# Altium footprint library 2.贴片器件封装.PcbLib: 28 footprints (part 2 of 2)
Each footprint in its own frame and in the unit in brackets; x right, y up, seen from the top. Pads: shape width x height; smd on the part's side, far side on the other; paste and mask are expansions set on the pad; w line width, h text height; cw(c..) or ccw(c..) is an arc to the next point about the centre after c.
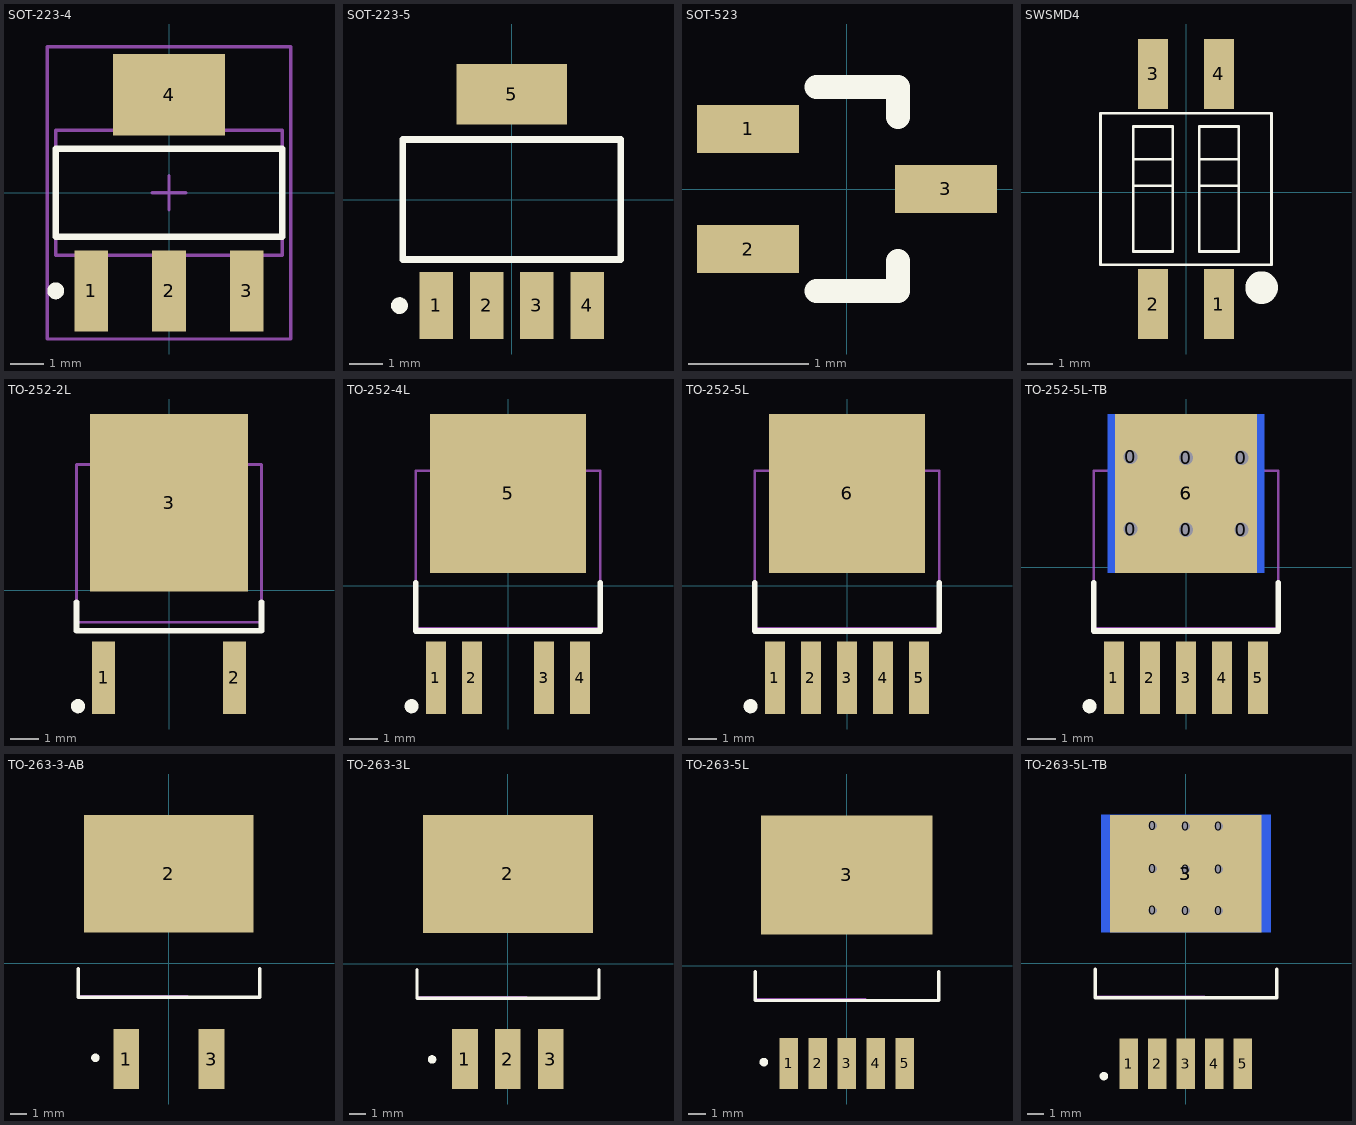
[diagram p1: the footprints below, top view; thin cyan lines are the x and y axes]

## SOT-223-4 [mm] "SOT223, 4-Leads, Body 6.7x7.3mm (max), Pitch 2.30mm, IPC Medium Density"
height 1.8
pads (4):
  rect 1x2.4 smd: 1(-2.3,-2.9) 2(0,-2.9) 3(2.3,-2.9)
  rect 3.3x2.4 smd: 4(0,2.9)
Top Overlay:
  circle w0.25: c-3.35,-2.9 r0.125
  lines w0.2: -3.35,-1.3 -3.35,1.3 3.35,1.3 3.35,-1.3 -3.35,-1.3
Mechanical 13:
  lines w0.1: -3.35,-1.85 -3.35,1.85 3.35,1.85 3.35,-1.85 -3.35,-1.85
Mechanical 15:
  lines w0.1: -0.5,0 0.5,0 ; 0,-0.5 0,0.5 ; -3.6,-4.325 -3.6,4.325 3.6,4.325 3.6,-4.325 -3.6,-4.325
3D body: height 1.8, standoff 0.02, extent -3.35,-1.85 3.35,1.85

## SOT-223-5 [mm] "SOT223"
height 1.8
pads (5):
  rect 1x2 smd: 1(-2.25,-3.15) 2(-0.75,-3.15) 3(0.75,-3.15) 4(2.25,-3.15)
  rect 3.3x1.8 smd: 5(0,3.15)
Top Overlay:
  circle w0.25: c-3.35,-3.154 r0.125
  lines w0.2: -3.25,-1.778 -3.25,1.803 3.25,1.803 3.25,-1.778 -3.25,-1.778

## SOT-523 [mm] "SOT23, 3-Leads, Body 1.7x1.8mm (max), Pitch 0.50mm, IPC Medium Density"
height 0.9
pads (3):
  rect 0.85x0.4 smd: 1(-0.825,0.5) 2(-0.825,-0.5) 3(0.825,0)
Top Overlay:
  lines w0.2: -0.254,-0.85 0.425,-0.85 0.425,-0.6 ; -0.254,0.85 0.425,0.85 0.425,0.6

## SWSMD4 [mm]
height 0.65
pads (4):
  rect 1.15x2.7 smd: 1(1.27,-4.318) 2(-1.27,-4.318) 3(-1.27,4.572) 4(1.27,4.572)
Top Overlay:
  circle w1: c2.921,-3.683 r0.127
  lines w0.1: -2.032,0.254 -0.508,0.254 ; -2.032,1.27 -0.508,1.27 ; 0.508,0.254 2.032,0.254 ; 0.508,1.27 2.032,1.27 ; -3.302,-2.794 -3.302,3.048 3.302,3.048 3.302,-2.794 -3.302,-2.794 ; -2.032,-2.286 -2.032,2.54 -0.508,2.54 -0.508,-2.286 -2.032,-2.286 ; 0.508,-2.286 0.508,2.54 2.032,2.54 2.032,-2.286 0.508,-2.286
3D body: height 3, standoff 0.25, extent -3.302,-3.556 3.302,3.81

## TO-252-2L [mm]
pads (3):
  rect 0.8x2.55 smd: 1(-2.3,-3.075) 2(2.3,-3.075)
  rect 5.55x6.25 smd: 3(0,3.075)
Top Overlay:
  circle w0.25: c-3.2,-4.075 r0.125
  lines w0.2: -3.25,-0.425 -3.25,-1.425 3.25,-1.425 3.25,-0.425
Mechanical 15:
  lines w0.1: -2.668,4.425 -2.668,4.871 -1.666,5.775 1.666,5.775 2.668,4.871 2.668,4.425 ; -3.25,-1.125 3.25,-1.125 3.25,4.425 -3.25,4.425 -3.25,-1.125

## TO-252-4L [mm]
pads (5):
  rect 0.7x2.55 smd: 1(-2.54,-3.25) 2(-1.27,-3.25) 3(1.27,-3.25) 4(2.54,-3.25)
  rect 5.5x5.6 smd: 5(0,3.25)
Top Overlay:
  circle w0.25: c-3.4,-4.25 r0.125
  lines w0.2: -3.25,0.1 -3.25,-1.6 3.25,-1.6 3.25,0.1
Mechanical 15:
  lines w0.1: -2.65,4.05 -2.65,4.562 -1.499,5.6 1.499,5.6 2.65,4.562 2.65,4.05 ; -3.25,-1.5 3.25,-1.5 3.25,4.05 -3.25,4.05 -3.25,-1.5

## TO-252-5L [mm]
pads (6):
  rect 0.7x2.55 smd: 1(-2.54,-3.25) 2(-1.27,-3.25) 3(0,-3.25) 4(1.27,-3.25) 5(2.54,-3.25)
  rect 5.5x5.6 smd: 6(0,3.25)
Top Overlay:
  circle w0.25: c-3.4,-4.25 r0.125
  lines w0.2: -3.25,0.1 -3.25,-1.6 3.25,-1.6 3.25,0.1
Mechanical 15:
  lines w0.1: -2.65,4.05 -2.65,4.562 -1.499,5.6 1.499,5.6 2.65,4.562 2.65,4.05 ; -3.25,-1.5 3.25,-1.5 3.25,4.05 -3.25,4.05 -3.25,-1.5

## TO-252-5L-TB [mm]
pads (13):
  round 1 hole 0.5: 0(-1.956,1.352) 0(-1.956,3.892) 0(0,1.327) 0(0,3.867) 0(1.956,1.327) 0(1.956,3.867)
  rect 0.7x2.55 smd: 1(-2.54,-3.892) 2(-1.27,-3.892) 3(0,-3.892) 4(1.27,-3.892) 5(2.54,-3.892)
  rect 5x5.6 smd: 6(0,2.608)
  rect 5.5x5.6 smd far side: 6(0,2.608)
Top Overlay:
  circle w0.25: c-3.4,-4.892 r0.125
  lines w0.2: -3.25,-0.542 -3.25,-2.242 3.25,-2.242 3.25,-0.542
Mechanical 15:
  lines w0.1: -2.65,3.92 -1.499,4.958 1.499,4.958 2.65,3.92 ; -2.066,3.433 -2.066,3.945 ; 2.066,3.408 2.066,3.92 ; -3.25,-2.142 -3.25,3.408 3.25,3.408 3.25,-2.142 -3.25,-2.142

## TO-263-3-AB [mil]
pads (3):
  rect 60x140 smd: 1(-100,-224.04) 3(100,-224.04)
  rect 396.85x275.2 smd: 2(0,210.04)
Top Overlay:
  circle w9.84: c-171.85,-221.02 r4.92
  lines w7.87: -212.02,-12.55 -212.02,-79.48 212.93,-79.48 212.93,-12.55
Mechanical 15:
  lines w3.94: -212.02,-75.54 43.88,-75.54

## TO-263-3L [mil]
pads (4):
  rect 60x140 smd: 1(-100,-222.04) 2(0,-222.04) 3(100,-222.04)
  rect 396.85x275.2 smd: 2(0,210.04)
Top Overlay:
  circle w9.84: c-176.85,-223.02 r4.92
  lines w7.87: -211.95,-13.59 -211.95,-80.52 213,-80.52 213,-13.59
Mechanical 15:
  lines w3.94: -211.95,-76.58 43.95,-76.58

## TO-263-5L [mm]
pads (6):
  rect 1.1x3 smd: 1(-3.4,-5.741) 2(-1.7,-5.741) 3(0,-5.741) 4(1.7,-5.741) 5(3.4,-5.741)
  rect 10.08x6.99 smd: 3(0,5.335)
Top Overlay:
  circle w0.25: c-4.873,-5.665 r0.125
  lines w0.2: -5.384,-0.345 -5.384,-2.045 5.41,-2.045 5.41,-0.345
Mechanical 15:
  lines w0.1: -5.384,-1.945 1.116,-1.945

## TO-263-5L-TB [mm]
pads (16):
  round 1 hole 0.5: 0(-1.956,3.15) 0(-1.956,5.639) 0(-1.956,8.179) 0(0,3.124) 0(0,5.613) 0(0,8.153) 0(1.956,3.124) 0(1.956,5.613) 0(1.956,8.153)
  rect 1.1x3 smd: 1(-3.4,-5.97) 2(-1.7,-5.97) 3(0,-5.97) 4(1.7,-5.97) 5(3.4,-5.97)
  rect 9x6.99 smd: 3(0,5.335)
  rect 10.08x6.99 smd far side: 3(0,5.335)
Top Overlay:
  circle w0.25: c-4.873,-6.706 r0.125
  lines w0.2: -5.384,-0.345 -5.384,-2.045 5.41,-2.045 5.41,-0.345
Mechanical 15:
  lines w0.1: -5.384,-1.945 1.116,-1.945 ; -2.066,7.72 -2.066,8.232 ; 2.066,7.694 2.066,8.206